# Altium footprint library PCB - CONNECTOR - SAMTEC - SAMTEC FTR-103-03-G-S 3DMODIFIED.PcbLib: 1 footprints
Each footprint in its own frame and in the unit in brackets; x right, y up, seen from the top. Pads: shape width x height; smd on the part's side, far side on the other; paste and mask are expansions set on the pad; w line width, h text height; cw(c..) or ccw(c..) is an arc to the next point about the centre after c.
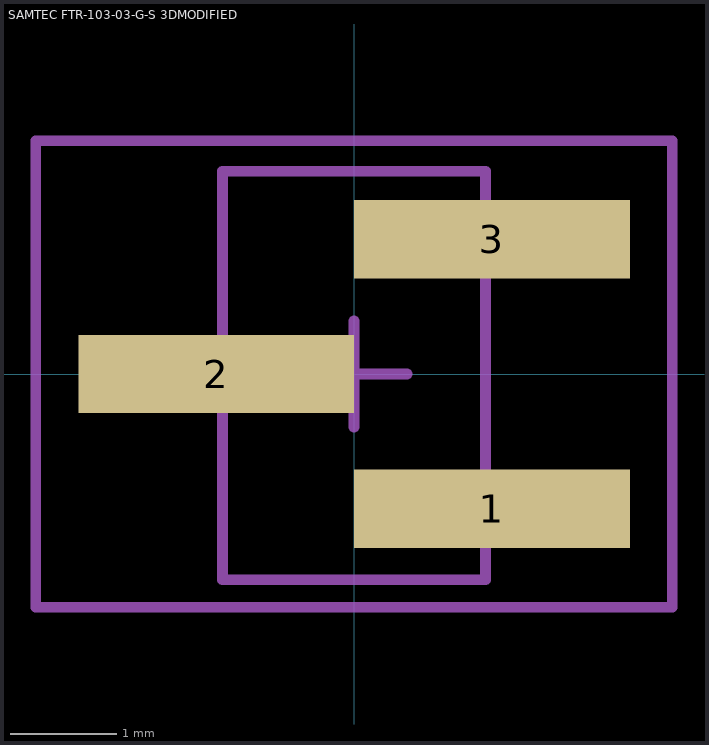
[diagram p0: the footprint, top view; thin cyan lines are the x and y axes]

## SAMTEC FTR-103-03-G-S 3DMODIFIED [mm]
pads (3):
  rect 2.6x0.74 smd: 1(1.3,-1.27) 2(-1.3,0) 3(1.3,1.27)
Mechanical 13:
  lines w0.1: -1.24,-1.94 1.24,-1.94 1.24,1.91 -1.24,1.91 -1.24,-1.94
Mechanical 15:
  lines w0.1: -0.5,0 0.5,0 ; 0,-0.5 0,0.5 ; -3,-2.2 3,-2.2 3,2.2 -3,2.2 -3,-2.2
3D body "Samtec FTR-103-03-G-S Modified.step": height 5.52, standoff 0.04, extent -2.239,-1.905 2.239,1.905